# Altium integrated library TI Amplifiers and Linear Special Function Amplifier.IntLib: 708 symbols (part 17 of 47)
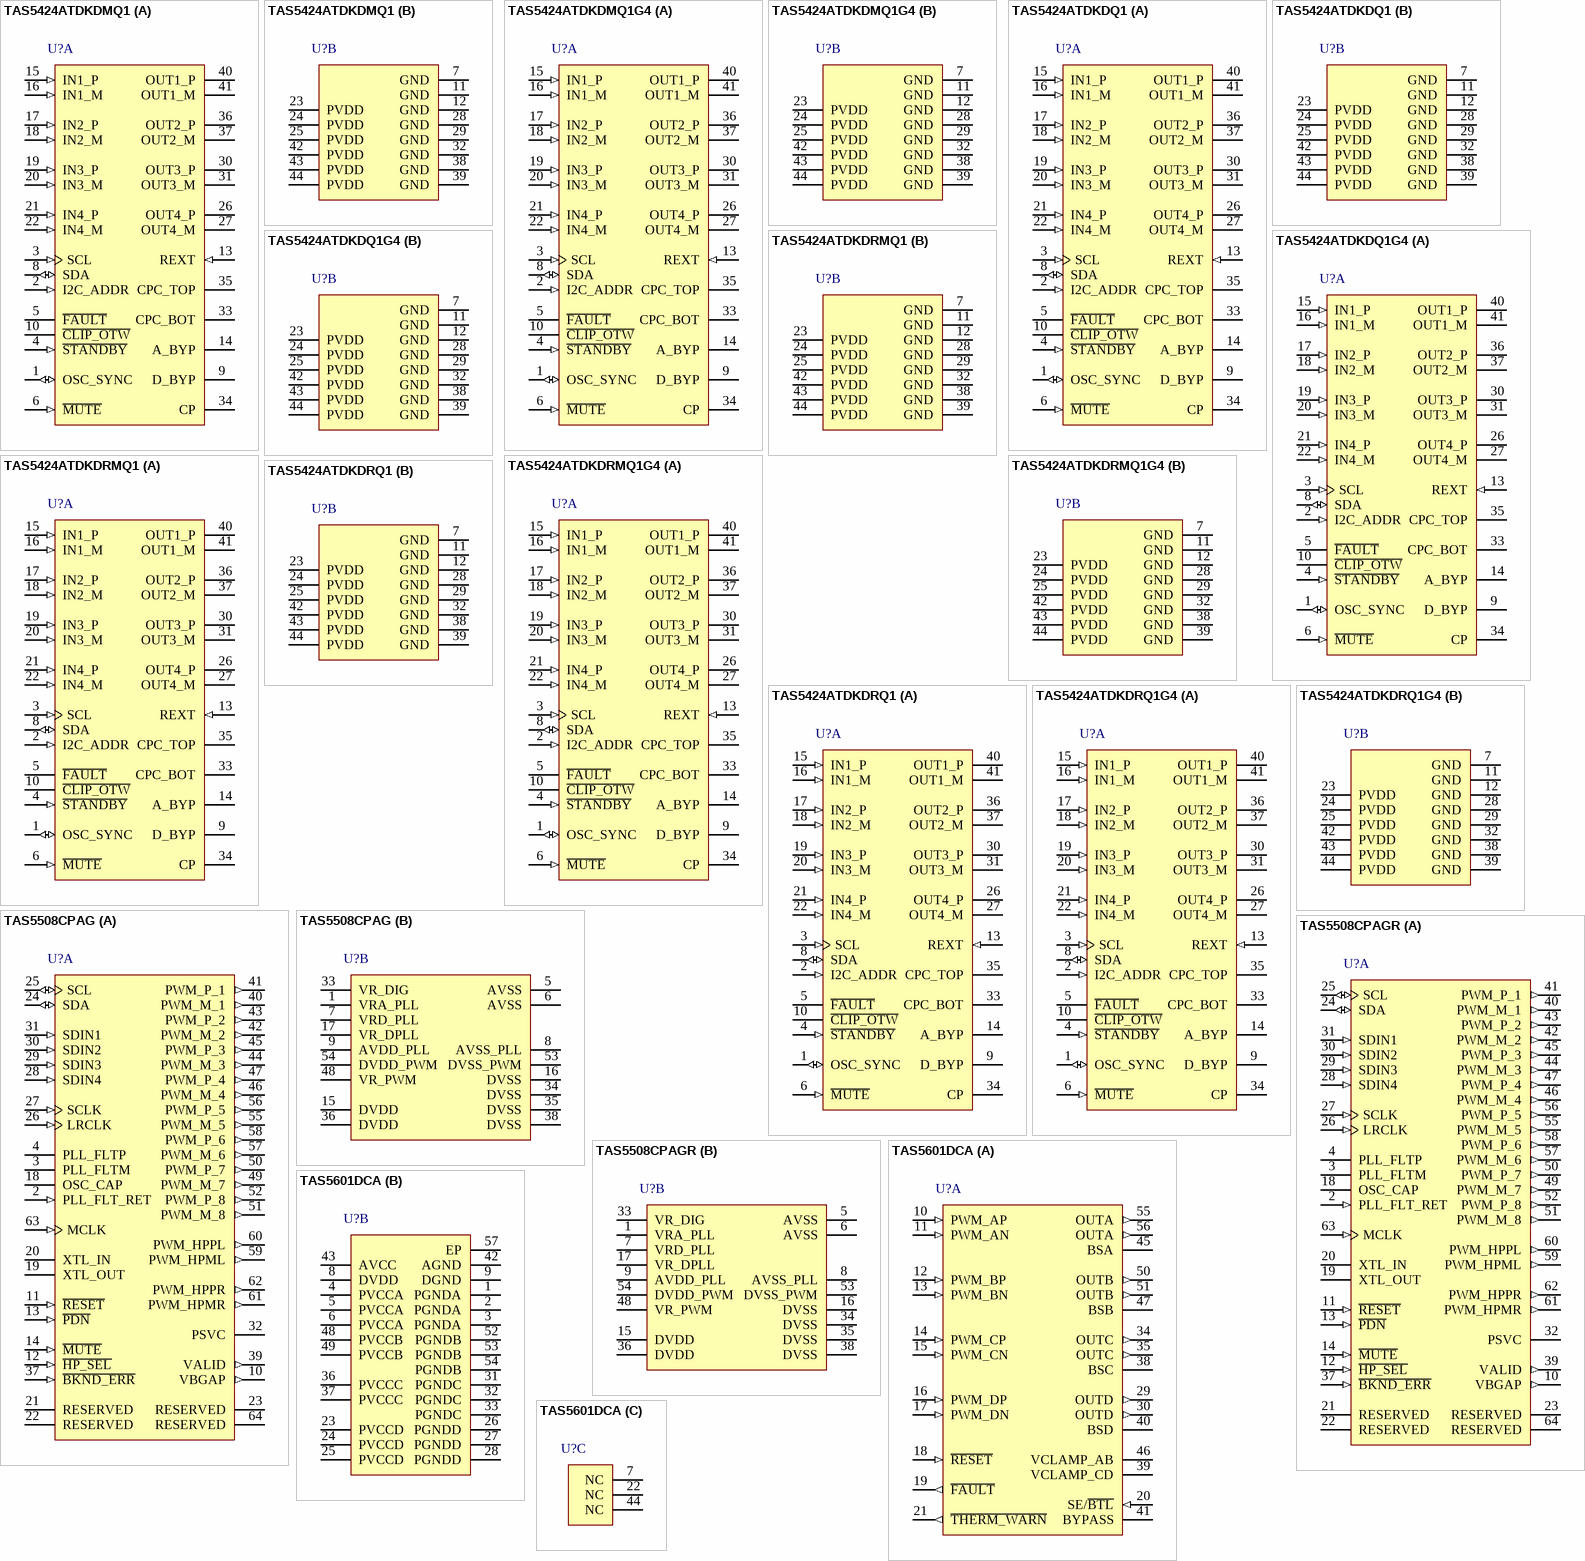
[diagram p55: symbols TAS5424ATDKDMQ1 to TAS5601DCA]

## TAS5601DCA
designator U?
20 W Stereo Digital Amplifier Power Stage with Feedback, -40 to 85 degC, 56-pin SOP (DCA56), Green (RoHS & no Sb/Br); Manufacturer: Texas Instruments; PartNumber: TAS5601DCA; Analog Supply Max [V]: 26; Analog Supply Min [V]: 10; Input Type: PWM; Max. Number of Speaker Outputs: 4; SubFamily: Mid/High-Power Amplifier; DatasheetVersion: SLAS585A; PackageVersion: 4073259-3/E, 07/2011; PackageReference: DCA56-5825X3235TP; PackageDescription: 56-Pin Plastic Small Outline, Body 14 x 6.1 mm, Pitch 0.5 mm; Supplier 1: Digi-Key; Supplier Part Number 1: TAS5601DCA-ND; Supplier 2: Farnell; Supplier Part Number 2: 1755215; Supplier 3: Mouser; Supplier Part Number 3: 595-TAS5601DCA; Eco-Plan: Green (RoHS & no Sb/Br); Mounting Technology: Surface Mount; Code_JEDEC: MO-153; ComponentLink1Description: Manufacturer URL; ComponentLink1URL: http://www.ti.com/; ComponentLink2Description: Datasheet; ComponentLink2URL: http://www.ti.com/general/docs/lit/getliterature.tsp?genericPartNumber=TAS5601&fileType=pdf; ComponentLink3Description: Package Specification; ComponentLink3URL: http://www.ti.com/lit/ds/symlink/tas5182.pdf
footprint TI-DCA56-5825X3235TP_N (SOP, 56-Leads, Body 14.1x6.2mm, Pitch 0.5mm, Thermal Pad 6.35x3.61mm, IPC Medium Density)
footprint TI-DCA56-5825X3235TP_L (SOP, 56-Leads, Body 14.1x6.2mm, Pitch 0.5mm, Thermal Pad 6.35x3.61mm, IPC High Density)
footprint TI-DCA56-5825X3235TP_M (SOP, 56-Leads, Body 14.1x6.2mm, Pitch 0.5mm, Thermal Pad 6.35x3.61mm, IPC Low Density)
part A pins: 10 PWM_AP (in) "Positive audio signal PWM input for channel A (Must be the complement of PWM_AN)", 11 PWM_AN (in) "Negative audio signal PWM input for channel A (Must be the complement of PWM_AP)", 12 PWM_BP (in) "Positive audio signal PWM input for channel B (Must be the complement of PWM_BN)", 13 PWM_BN (in) "Negative audio signal PWM input for channel B (Must be the complement of PWM_BP)", 14 PWM_CP (in) "Positive audio signal PWM input for channel C (Must be the complement of PWM_CN)", 15 PWM_CN (in) "Negative audio signal PWM input for channel C (Must be the complement of PWM_CP)", 16 PWM_DP (in) "Positive audio signal PWM input for channel D (Must be the complement of PWM_DN)", 17 PWM_DN (in) "Negative audio signal PWM input for channel D (Must be the complement of PWM_DP)", 18 ~{RESET} (in) "Enable/Disable pin R\E\S\E\T\ = High, normal operation R\E\S\E\T\ = Low, held in reset mode", 19 ~{FAULT} (out) "Short circuit fault F\A\U\L\T\ = High, normal operation F\A\U\L\T\ = Low, short circuit at output detected. F\A\U\L\T\ will latch if short circuit detected and will be reset if the R\E\S\E\T\ pin is pulled low or the VCC (See Datasheet)", 20 SE/~{BTL} (in) "Single-ended or Bridge-tied output select terminal. If any output is configured as a single-ended load, this pin should be connected to DVDD. For 2-channel, BTL operation, connect to GND.", 21 ~{THERM_WARN} (out) "Thermal warning output flag. T\H\E\R\M\_\W\A\R\N\ = HIGH, normal operation. T\H\E\R\M\_\W\A\R\N\ = LOW, die temperature has reached 125 deg. C. Automatically resets when temperature falls back to normal range. TTL compatible (See Datasheet)", 29 OUTD (out) "Channel D 1/2 H-bridge output", 30 OUTD (out) "Channel D 1/2 H-bridge output", 34 OUTC (out) "Channel C 1/2 H-bridge output", 35 OUTC (out) "Channel C 1/2 H-bridge output", 38 BSC "Bootstrap I/O for channel C high-side FET", 39 VCLAMP_CD "Internally generated voltage supply for channel C and D bootstrap. Not to be used as a supply or connected to any component other than the decoupling capacitor.", 40 BSD "Bootstrap I/O for channel D high-side FET", 41 BYPASS "VCC/8 reference for analog cells", 45 BSA "Bootstrap I/O for channel A high-side FET", 46 VCLAMP_AB "Internally generated voltage supply for channel A and B bootstrap. Not to be used as a supply or connected to any component other than the decoupling capacitor.", 47 BSB "Bootstrap I/O for channel B high-side FET", 50 OUTB (out) "Channel B 1/2 H-bridge output", 51 OUTB (out) "Channel B 1/2 H-bridge output", 55 OUTA (out) "Channel A 1/2 H-bridge output", 56 OUTA (out) "Channel A 1/2 H-bridge output"
part B pins: 1 PGNDA (power) "Power ground reference for channel A output", 2 PGNDA (power) "Power ground reference for channel A output", 3 PGNDA (power) "Power ground reference for channel A output", 4 PVCCA (power) "Positive power supply for channel A output", 5 PVCCA (power) "Positive power supply for channel A output", 6 PVCCA (power) "Positive power supply for channel A output", 8 DVDD (power) "Digital supply (3V-4.2V). Supply for PWM input signal conditioning, F\A\U\L\T\ and R\S\T\ I/O buffers", 9 DGND (power) "Ground reference input for PWM and digital inputs", 23 PVCCD (power) "Positive power supply for channel D output", 24 PVCCD (power) "Positive power supply for channel D output", 25 PVCCD (power) "Positive power supply for channel D output", 26 PGNDD (power) "Power ground reference for channel D output", 27 PGNDD (power) "Power ground reference for channel D output", 28 PGNDD (power) "Power ground reference for channel D output", 31 PGNDC (power) "Power ground reference for channel C output", 32 PGNDC (power) "Power ground reference for channel C output", 33 PGNDC (power) "Power ground reference for channel C output", 36 PVCCC (power) "Positive power supply for channel C output", 37 PVCCC (power) "Positive power supply for channel C output", 42 AGND (power) "Analog ground", 43 AVCC (power) "Analog power supply", 48 PVCCB (power) "Positive power supply for channel B output", 49 PVCCB (power) "Positive power supply for channel B output", 52 PGNDB (power) "Power ground reference for channel B output", 53 PGNDB (power) "Power ground reference for channel B output", 54 PGNDB (power) "Power ground reference for channel B output", 57 EP (power) "Connect to PGNDx"
part C pins: 7 NC, 22 NC, 44 NC

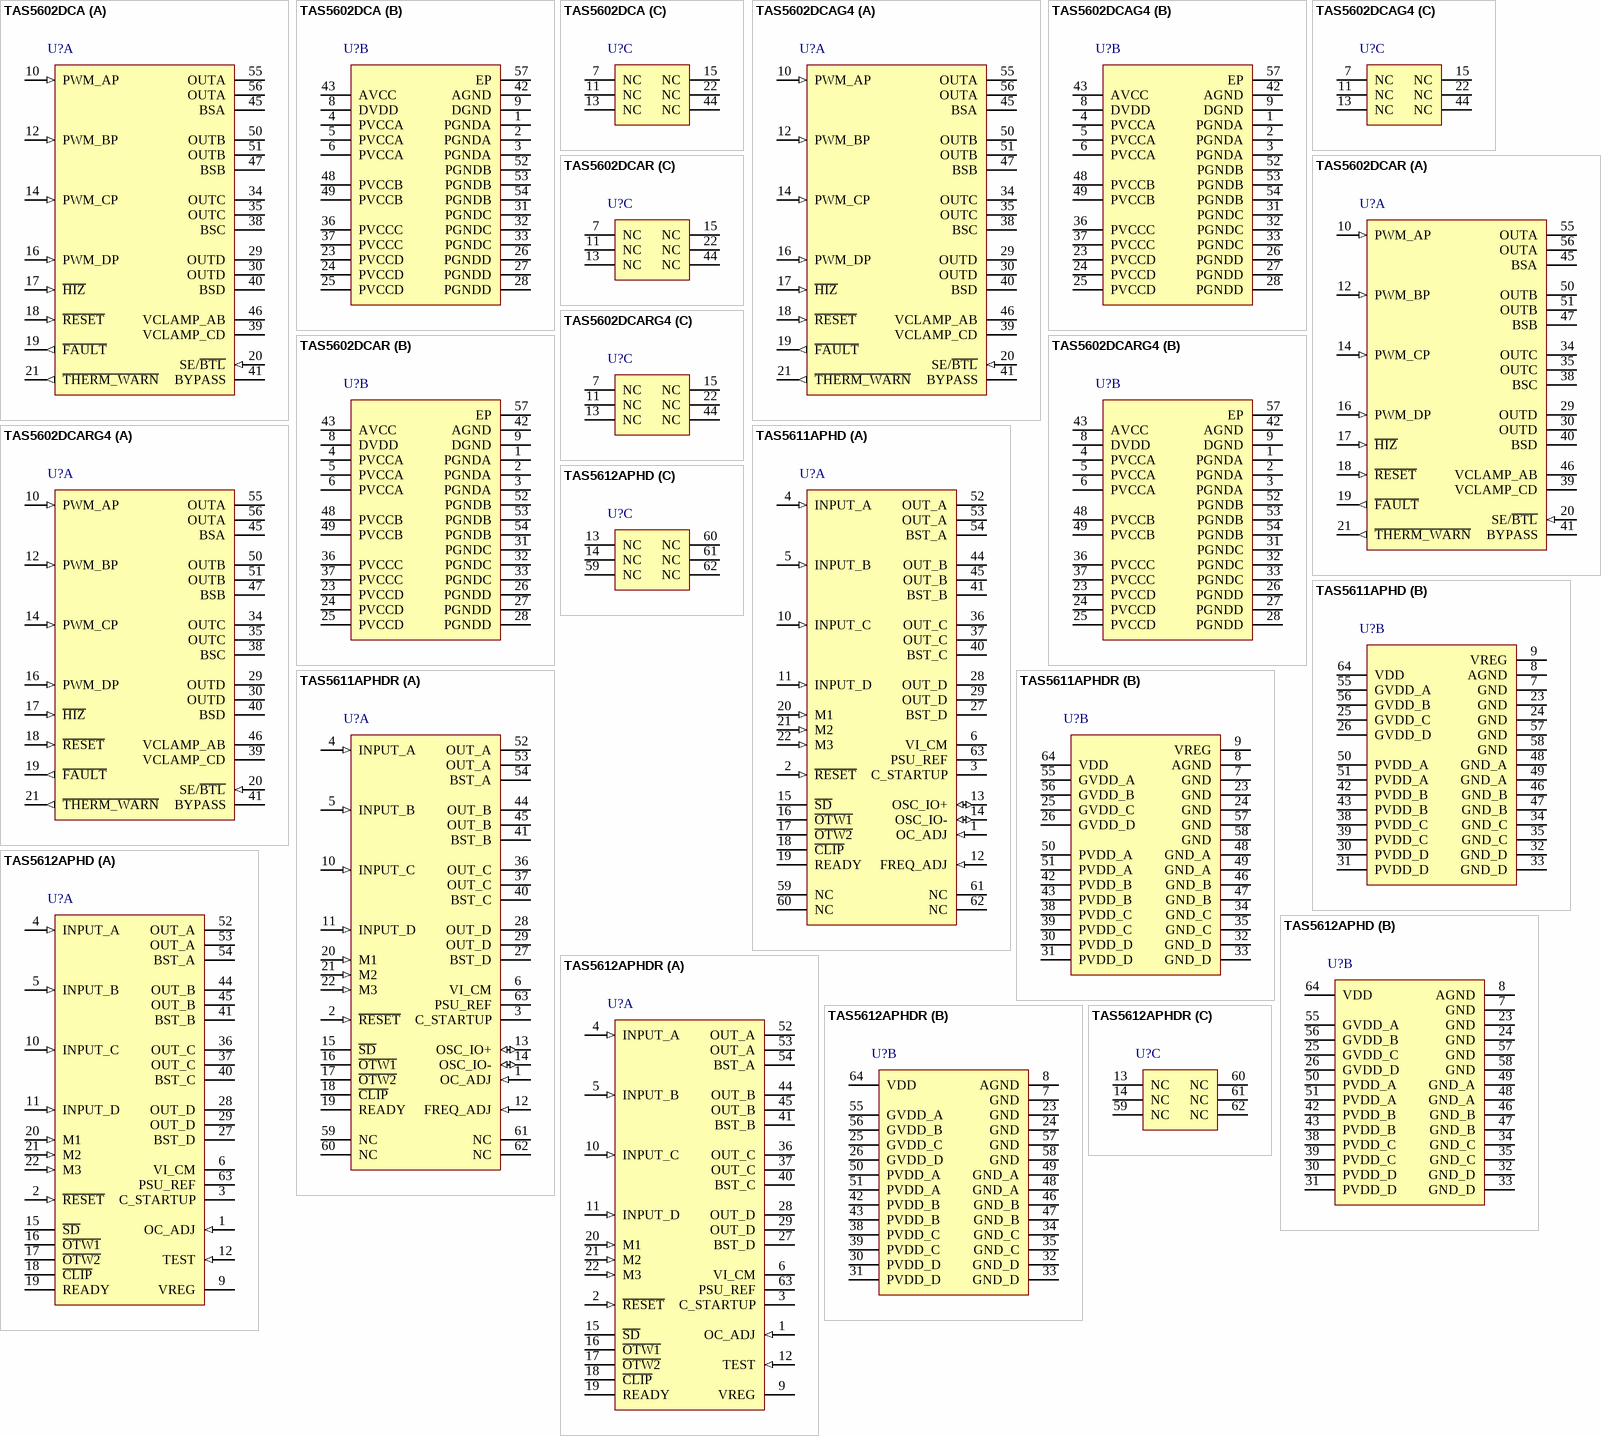
[diagram p16: symbols TAS5602DCA to TAS5612APHDR]

## TAS5602DCA
designator U?
20 W Stereo Digital Amplifier Power Stage with Feedback, -40 to 85 degC, 56-pin SOP (DCA56), Green (RoHS & no Sb/Br); Manufacturer: Texas Instruments; PartNumber: TAS5602DCA; Analog Supply Max [V]: 26; Analog Supply Min [V]: 10; Digital Supply Min [V]: 3; Input Type: PWM; Max. Number of Speaker Outputs: 4; SubFamily: Mid/High-Power Amplifier; DatasheetVersion: SLAS593B; PackageVersion: 4073259-3/E, 07/2011; PackageReference: DCA56-5825X3235TP; PackageDescription: 56-Pin Plastic Small Outline, Body 14 x 6.1 mm, Pitch 0.5 mm; Supplier 1: Digi-Key; Supplier Part Number 1: TAS5602DCA-ND; Supplier 2: Mouser; Supplier Part Number 2: 595-TAS5602DCA; Eco-Plan: Green (RoHS & no Sb/Br); Power Stage Supply Min(V): 10; Mounting Technology: Surface Mount; Code_JEDEC: MO-153; ComponentLink1Description: Manufacturer URL; ComponentLink1URL: http://www.ti.com/; ComponentLink2Description: Datasheet; ComponentLink2URL: http://www.ti.com/general/docs/lit/getliterature.tsp?genericPartNumber=TAS5602&fileType=pdf; ComponentLink3Description: Package Specification; ComponentLink3URL: http://www.ti.com/lit/ds/symlink/tas5182.pdf
footprint TI-DCA56-5825X3235TP_N (SOP, 56-Leads, Body 14.1x6.2mm, Pitch 0.5mm, Thermal Pad 6.35x3.61mm, IPC Medium Density)
footprint TI-DCA56-5825X3235TP_L (SOP, 56-Leads, Body 14.1x6.2mm, Pitch 0.5mm, Thermal Pad 6.35x3.61mm, IPC High Density)
footprint TI-DCA56-5825X3235TP_M (SOP, 56-Leads, Body 14.1x6.2mm, Pitch 0.5mm, Thermal Pad 6.35x3.61mm, IPC Low Density)
part A pins: 10 PWM_AP (in) "Positive audio signal PWM input for channel A", 12 PWM_BP (in) "Positive audio signal PWM input for channel B", 14 PWM_CP (in) "Positive audio signal PWM input for channel C", 16 PWM_DP (in) "Positive audio signal PWM input for channel D", 17 ~{HIZ} (in) "Forces the output to high impedance state. Use this terminal to quickly (<1 ms) disable the output switching in cases like power fail. If H\I\Z\ is tied to R\E\S\E\T\, the volume ramps up slowly at start-up, but the output (See Datasheet)", 18 ~{RESET} (in) "Enable/Disable pin R\E\S\E\T\ = High, normal operation R\E\S\E\T\ = Low, held in reset mode", 19 ~{FAULT} (out) "Short circuit fault F\A\U\L\T\ = High, normal operation F\A\U\L\T\ = Low, short circuit at output detected. F\A\U\L\T\ will latch if short circuit detected and will be reset if the R\E\S\E\T\ pin is pulled low or the VCC (See Datasheet)", 20 SE/~{BTL} (in) "Single-ended or Bridge-tied output select terminal. If any output is configured as a single-ended load, this pin should be connected to DVDD. For 2-channel, BTL operation, connect to GND.", 21 ~{THERM_WARN} (out) "Thermal warning output flag. T\H\E\R\M\_\W\A\R\N\ = HIGH, normal operation. T\H\E\R\M\_\W\A\R\N\ = LOW, die temperature has reached 125 deg. C. Automatically resets when temperature falls back to normal range. TTL compatible (See Datasheet)", 29 OUTD (hiz) "Channel D 1/2 H-bridge output", 30 OUTD (hiz) "Channel D 1/2 H-bridge output", 34 OUTC (hiz) "Channel C 1/2 H-bridge output", 35 OUTC (hiz) "Channel C 1/2 H-bridge output", 38 BSC "Bootstrap I/O for channel C high-side FET", 39 VCLAMP_CD "Internally generated voltage supply for channel C and D bootstrap. Not to be used as a supply or connected to any component other than the decoupling capacitor.", 40 BSD "Bootstrap I/O for channel D high-side FET", 41 BYPASS "VCC/8 reference for analog cells", 45 BSA "Bootstrap I/O for channel A high-side FET", 46 VCLAMP_AB "Internally generated voltage supply for channel A and B bootstrap. Not to be used as a supply or connected to any component other than the decoupling capacitor.", 47 BSB "Bootstrap I/O for channel B high-side FET", 50 OUTB (hiz) "Channel B 1/2 H-bridge output", 51 OUTB (hiz) "Channel B 1/2 H-bridge output", 55 OUTA (hiz) "Channel A 1/2 H-bridge output", 56 OUTA (hiz) "Channel A 1/2 H-bridge output"
part B pins: 1 PGNDA (power) "Power ground reference for channel A output", 2 PGNDA (power) "Power ground reference for channel A output", 3 PGNDA (power) "Power ground reference for channel A output", 4 PVCCA (power) "Positive power supply for channel A output", 5 PVCCA (power) "Positive power supply for channel A output", 6 PVCCA (power) "Positive power supply for channel A output", 8 DVDD (power) "Digital supply (3V-4.2V). Supply for PWM input signal conditioning, F\A\U\L\T\ and R\S\T\ I/O buffers", 9 DGND (power) "Ground reference input for PWM and digital inputs", 23 PVCCD (power) "Positive power supply for channel D output", 24 PVCCD (power) "Positive power supply for channel D output", 25 PVCCD (power) "Positive power supply for channel D output", 26 PGNDD (power) "Power ground reference for channel D output", 27 PGNDD (power) "Power ground reference for channel D output", 28 PGNDD (power) "Power ground reference for channel D output", 31 PGNDC (power) "Power ground reference for channel C output", 32 PGNDC (power) "Power ground reference for channel C output", 33 PGNDC (power) "Power ground reference for channel C output", 36 PVCCC (power) "Positive power supply for channel C output", 37 PVCCC (power) "Positive power supply for channel C output", 42 AGND (power) "Analog ground", 43 AVCC (power) "Analog power supply", 48 PVCCB (power) "Positive power supply for channel B output", 49 PVCCB (power) "Positive power supply for channel B output", 52 PGNDB (power) "Power ground reference for channel B output", 53 PGNDB (power) "Power ground reference for channel B output", 54 PGNDB (power) "Power ground reference for channel B output", 57 EP (power) "Connect to PGNDx"
part C pins: 7 NC "No internal connection.", 11 NC "No internal connection.", 13 NC "No internal connection.", 15 NC "No internal connection.", 22 NC "No internal connection.", 44 NC "No internal connection."

## TAS5602DCAG4
designator U?
20 W Stereo Digital Amplifier Power Stage with Feedback, -40 to 85 degC, 56-pin SOP (DCA56), Green (RoHS & no Sb/Br); Manufacturer: Texas Instruments; PartNumber: TAS5602DCAG4; Analog Supply Max [V]: 26; Analog Supply Min [V]: 10; Digital Supply Min [V]: 3; Input Type: PWM; Max. Number of Speaker Outputs: 4; SubFamily: Mid/High-Power Amplifier; DatasheetVersion: SLAS593B; PackageVersion: 4073259-3/E, 07/2011; PackageReference: DCA56-5825X3235TP; PackageDescription: 56-Pin Plastic Small Outline, Body 14 x 6.1 mm, Pitch 0.5 mm; Supplier 1: Digi-Key; Supplier Part Number 1: TAS5602DCAG4-ND; Supplier 2: Mouser; Supplier Part Number 2: 595-TAS5602DCAG4; Eco-Plan: Green (RoHS & no Sb/Br); Power Stage Supply Min(V): 10; Mounting Technology: Surface Mount; Code_JEDEC: MO-153; ComponentLink1Description: Manufacturer URL; ComponentLink1URL: http://www.ti.com/; ComponentLink2Description: Datasheet; ComponentLink2URL: http://www.ti.com/general/docs/lit/getliterature.tsp?genericPartNumber=TAS5602&fileType=pdf; ComponentLink3Description: Package Specification; ComponentLink3URL: http://www.ti.com/lit/ds/symlink/tas5182.pdf
footprint TI-DCA56-5825X3235TP_N (SOP, 56-Leads, Body 14.1x6.2mm, Pitch 0.5mm, Thermal Pad 6.35x3.61mm, IPC Medium Density)
footprint TI-DCA56-5825X3235TP_L (SOP, 56-Leads, Body 14.1x6.2mm, Pitch 0.5mm, Thermal Pad 6.35x3.61mm, IPC High Density)
footprint TI-DCA56-5825X3235TP_M (SOP, 56-Leads, Body 14.1x6.2mm, Pitch 0.5mm, Thermal Pad 6.35x3.61mm, IPC Low Density)
part A pins: 10 PWM_AP (in) "Positive audio signal PWM input for channel A", 12 PWM_BP (in) "Positive audio signal PWM input for channel B", 14 PWM_CP (in) "Positive audio signal PWM input for channel C", 16 PWM_DP (in) "Positive audio signal PWM input for channel D", 17 ~{HIZ} (in) "Forces the output to high impedance state. Use this terminal to quickly (<1 ms) disable the output switching in cases like power fail. If H\I\Z\ is tied to R\E\S\E\T\, the volume ramps up slowly at start-up, but the output (See Datasheet)", 18 ~{RESET} (in) "Enable/Disable pin R\E\S\E\T\ = High, normal operation R\E\S\E\T\ = Low, held in reset mode", 19 ~{FAULT} (out) "Short circuit fault F\A\U\L\T\ = High, normal operation F\A\U\L\T\ = Low, short circuit at output detected. F\A\U\L\T\ will latch if short circuit detected and will be reset if the R\E\S\E\T\ pin is pulled low or the VCC (See Datasheet)", 20 SE/~{BTL} (in) "Single-ended or Bridge-tied output select terminal. If any output is configured as a single-ended load, this pin should be connected to DVDD. For 2-channel, BTL operation, connect to GND.", 21 ~{THERM_WARN} (out) "Thermal warning output flag. T\H\E\R\M\_\W\A\R\N\ = HIGH, normal operation. T\H\E\R\M\_\W\A\R\N\ = LOW, die temperature has reached 125 deg. C. Automatically resets when temperature falls back to normal range. TTL compatible (See Datasheet)", 29 OUTD (hiz) "Channel D 1/2 H-bridge output", 30 OUTD (hiz) "Channel D 1/2 H-bridge output", 34 OUTC (hiz) "Channel C 1/2 H-bridge output", 35 OUTC (hiz) "Channel C 1/2 H-bridge output", 38 BSC "Bootstrap I/O for channel C high-side FET", 39 VCLAMP_CD "Internally generated voltage supply for channel C and D bootstrap. Not to be used as a supply or connected to any component other than the decoupling capacitor.", 40 BSD "Bootstrap I/O for channel D high-side FET", 41 BYPASS "VCC/8 reference for analog cells", 45 BSA "Bootstrap I/O for channel A high-side FET", 46 VCLAMP_AB "Internally generated voltage supply for channel A and B bootstrap. Not to be used as a supply or connected to any component other than the decoupling capacitor.", 47 BSB "Bootstrap I/O for channel B high-side FET", 50 OUTB (hiz) "Channel B 1/2 H-bridge output", 51 OUTB (hiz) "Channel B 1/2 H-bridge output", 55 OUTA (hiz) "Channel A 1/2 H-bridge output", 56 OUTA (hiz) "Channel A 1/2 H-bridge output"
part B pins: 1 PGNDA (power) "Power ground reference for channel A output", 2 PGNDA (power) "Power ground reference for channel A output", 3 PGNDA (power) "Power ground reference for channel A output", 4 PVCCA (power) "Positive power supply for channel A output", 5 PVCCA (power) "Positive power supply for channel A output", 6 PVCCA (power) "Positive power supply for channel A output", 8 DVDD (power) "Digital supply (3V-4.2V). Supply for PWM input signal conditioning, F\A\U\L\T\ and R\S\T\ I/O buffers", 9 DGND (power) "Ground reference input for PWM and digital inputs", 23 PVCCD (power) "Positive power supply for channel D output", 24 PVCCD (power) "Positive power supply for channel D output", 25 PVCCD (power) "Positive power supply for channel D output", 26 PGNDD (power) "Power ground reference for channel D output", 27 PGNDD (power) "Power ground reference for channel D output", 28 PGNDD (power) "Power ground reference for channel D output", 31 PGNDC (power) "Power ground reference for channel C output", 32 PGNDC (power) "Power ground reference for channel C output", 33 PGNDC (power) "Power ground reference for channel C output", 36 PVCCC (power) "Positive power supply for channel C output", 37 PVCCC (power) "Positive power supply for channel C output", 42 AGND (power) "Analog ground", 43 AVCC (power) "Analog power supply", 48 PVCCB (power) "Positive power supply for channel B output", 49 PVCCB (power) "Positive power supply for channel B output", 52 PGNDB (power) "Power ground reference for channel B output", 53 PGNDB (power) "Power ground reference for channel B output", 54 PGNDB (power) "Power ground reference for channel B output", 57 EP (power) "Connect to PGNDx"
part C pins: 7 NC "No internal connection.", 11 NC "No internal connection.", 13 NC "No internal connection.", 15 NC "No internal connection.", 22 NC "No internal connection.", 44 NC "No internal connection."

## TAS5602DCAR
designator U?
20 W Stereo Digital Amplifier Power Stage with Feedback, -40 to 85 degC, 56-pin SOP (DCA56), Green (RoHS & no Sb/Br); Manufacturer: Texas Instruments; PartNumber: TAS5602DCAR; Analog Supply Max [V]: 26; Analog Supply Min [V]: 10; Digital Supply Min [V]: 3; Input Type: PWM; Max. Number of Speaker Outputs: 4; SubFamily: Mid/High-Power Amplifier; DatasheetVersion: SLAS593B; PackageVersion: 4073259-3/E, 07/2011; PackageReference: DCA56-5825X3235TP; PackageDescription: 56-Pin Plastic Small Outline, Body 14 x 6.1 mm, Pitch 0.5 mm; Supplier 1: Digi-Key; Supplier Part Number 1: 296-23533-2-ND; Supplier 2: Digi-Key; Supplier Part Number 2: 296-23533-1-ND; Supplier 3: Digi-Key; Supplier Part Number 3: 296-23533-6-ND; Supplier 4: Mouser; Supplier Part Number 4: 595-TAS5602DCAR; Eco-Plan: Green (RoHS & no Sb/Br); Power Stage Supply Min(V): 10; Mounting Technology: Surface Mount; Code_JEDEC: MO-153; ComponentLink1Description: Manufacturer URL; ComponentLink1URL: http://www.ti.com/; ComponentLink2Description: Datasheet; ComponentLink2URL: http://www.ti.com/general/docs/lit/getliterature.tsp?genericPartNumber=TAS5602&fileType=pdf; ComponentLink3Description: Package Specification; ComponentLink3URL: http://www.ti.com/lit/ds/symlink/tas5182.pdf
footprint TI-DCA56-5825X3235TP_N (SOP, 56-Leads, Body 14.1x6.2mm, Pitch 0.5mm, Thermal Pad 6.35x3.61mm, IPC Medium Density)
footprint TI-DCA56-5825X3235TP_L (SOP, 56-Leads, Body 14.1x6.2mm, Pitch 0.5mm, Thermal Pad 6.35x3.61mm, IPC High Density)
footprint TI-DCA56-5825X3235TP_M (SOP, 56-Leads, Body 14.1x6.2mm, Pitch 0.5mm, Thermal Pad 6.35x3.61mm, IPC Low Density)
part A pins: 10 PWM_AP (in) "Positive audio signal PWM input for channel A", 12 PWM_BP (in) "Positive audio signal PWM input for channel B", 14 PWM_CP (in) "Positive audio signal PWM input for channel C", 16 PWM_DP (in) "Positive audio signal PWM input for channel D", 17 ~{HIZ} (in) "Forces the output to high impedance state. Use this terminal to quickly (<1 ms) disable the output switching in cases like power fail. If H\I\Z\ is tied to R\E\S\E\T\, the volume ramps up slowly at start-up, but the output (See Datasheet)", 18 ~{RESET} (in) "Enable/Disable pin R\E\S\E\T\ = High, normal operation R\E\S\E\T\ = Low, held in reset mode", 19 ~{FAULT} (out) "Short circuit fault F\A\U\L\T\ = High, normal operation F\A\U\L\T\ = Low, short circuit at output detected. F\A\U\L\T\ will latch if short circuit detected and will be reset if the R\E\S\E\T\ pin is pulled low or the VCC (See Datasheet)", 20 SE/~{BTL} (in) "Single-ended or Bridge-tied output select terminal. If any output is configured as a single-ended load, this pin should be connected to DVDD. For 2-channel, BTL operation, connect to GND.", 21 ~{THERM_WARN} (out) "Thermal warning output flag. T\H\E\R\M\_\W\A\R\N\ = HIGH, normal operation. T\H\E\R\M\_\W\A\R\N\ = LOW, die temperature has reached 125 deg. C. Automatically resets when temperature falls back to normal range. TTL compatible (See Datasheet)", 29 OUTD (hiz) "Channel D 1/2 H-bridge output", 30 OUTD (hiz) "Channel D 1/2 H-bridge output", 34 OUTC (hiz) "Channel C 1/2 H-bridge output", 35 OUTC (hiz) "Channel C 1/2 H-bridge output", 38 BSC "Bootstrap I/O for channel C high-side FET", 39 VCLAMP_CD "Internally generated voltage supply for channel C and D bootstrap. Not to be used as a supply or connected to any component other than the decoupling capacitor.", 40 BSD "Bootstrap I/O for channel D high-side FET", 41 BYPASS "VCC/8 reference for analog cells", 45 BSA "Bootstrap I/O for channel A high-side FET", 46 VCLAMP_AB "Internally generated voltage supply for channel A and B bootstrap. Not to be used as a supply or connected to any component other than the decoupling capacitor.", 47 BSB "Bootstrap I/O for channel B high-side FET", 50 OUTB (hiz) "Channel B 1/2 H-bridge output", 51 OUTB (hiz) "Channel B 1/2 H-bridge output", 55 OUTA (hiz) "Channel A 1/2 H-bridge output", 56 OUTA (hiz) "Channel A 1/2 H-bridge output"
part B pins: 1 PGNDA (power) "Power ground reference for channel A output", 2 PGNDA (power) "Power ground reference for channel A output", 3 PGNDA (power) "Power ground reference for channel A output", 4 PVCCA (power) "Positive power supply for channel A output", 5 PVCCA (power) "Positive power supply for channel A output", 6 PVCCA (power) "Positive power supply for channel A output", 8 DVDD (power) "Digital supply (3V-4.2V). Supply for PWM input signal conditioning, F\A\U\L\T\ and R\S\T\ I/O buffers", 9 DGND (power) "Ground reference input for PWM and digital inputs", 23 PVCCD (power) "Positive power supply for channel D output", 24 PVCCD (power) "Positive power supply for channel D output", 25 PVCCD (power) "Positive power supply for channel D output", 26 PGNDD (power) "Power ground reference for channel D output", 27 PGNDD (power) "Power ground reference for channel D output", 28 PGNDD (power) "Power ground reference for channel D output", 31 PGNDC (power) "Power ground reference for channel C output", 32 PGNDC (power) "Power ground reference for channel C output", 33 PGNDC (power) "Power ground reference for channel C output", 36 PVCCC (power) "Positive power supply for channel C output", 37 PVCCC (power) "Positive power supply for channel C output", 42 AGND (power) "Analog ground", 43 AVCC (power) "Analog power supply", 48 PVCCB (power) "Positive power supply for channel B output", 49 PVCCB (power) "Positive power supply for channel B output", 52 PGNDB (power) "Power ground reference for channel B output", 53 PGNDB (power) "Power ground reference for channel B output", 54 PGNDB (power) "Power ground reference for channel B output", 57 EP (power) "Connect to PGNDx"
part C pins: 7 NC "No internal connection.", 11 NC "No internal connection.", 13 NC "No internal connection.", 15 NC "No internal connection.", 22 NC "No internal connection.", 44 NC "No internal connection."

## TAS5602DCARG4
designator U?
20 W Stereo Digital Amplifier Power Stage with Feedback, -40 to 85 degC, 56-pin SOP (DCA56), Green (RoHS & no Sb/Br); Manufacturer: Texas Instruments; PartNumber: TAS5602DCARG4; Analog Supply Max [V]: 26; Analog Supply Min [V]: 10; Digital Supply Min [V]: 3; Input Type: PWM; Max. Number of Speaker Outputs: 4; SubFamily: Mid/High-Power Amplifier; DatasheetVersion: SLAS593B; PackageVersion: 4073259-3/E, 07/2011; PackageReference: DCA56-5825X3235TP; PackageDescription: 56-Pin Plastic Small Outline, Body 14 x 6.1 mm, Pitch 0.5 mm; Supplier 1: Digi-Key; Supplier Part Number 1: TAS5602DCARG4-ND; Supplier 2: Mouser; Supplier Part Number 2: 595-TAS5602DCARG4; Eco-Plan: Green (RoHS & no Sb/Br); Power Stage Supply Min(V): 10; Mounting Technology: Surface Mount; Code_JEDEC: MO-153; ComponentLink1Description: Manufacturer URL; ComponentLink1URL: http://www.ti.com/; ComponentLink2Description: Datasheet; ComponentLink2URL: http://www.ti.com/general/docs/lit/getliterature.tsp?genericPartNumber=TAS5602&fileType=pdf; ComponentLink3Description: Package Specification; ComponentLink3URL: http://www.ti.com/lit/ds/symlink/tas5182.pdf
footprint TI-DCA56-5825X3235TP_N (SOP, 56-Leads, Body 14.1x6.2mm, Pitch 0.5mm, Thermal Pad 6.35x3.61mm, IPC Medium Density)
footprint TI-DCA56-5825X3235TP_L (SOP, 56-Leads, Body 14.1x6.2mm, Pitch 0.5mm, Thermal Pad 6.35x3.61mm, IPC High Density)
footprint TI-DCA56-5825X3235TP_M (SOP, 56-Leads, Body 14.1x6.2mm, Pitch 0.5mm, Thermal Pad 6.35x3.61mm, IPC Low Density)
part A pins: 10 PWM_AP (in) "Positive audio signal PWM input for channel A", 12 PWM_BP (in) "Positive audio signal PWM input for channel B", 14 PWM_CP (in) "Positive audio signal PWM input for channel C", 16 PWM_DP (in) "Positive audio signal PWM input for channel D", 17 ~{HIZ} (in) "Forces the output to high impedance state. Use this terminal to quickly (<1 ms) disable the output switching in cases like power fail. If H\I\Z\ is tied to R\E\S\E\T\, the volume ramps up slowly at start-up, but the output (See Datasheet)", 18 ~{RESET} (in) "Enable/Disable pin R\E\S\E\T\ = High, normal operation R\E\S\E\T\ = Low, held in reset mode", 19 ~{FAULT} (out) "Short circuit fault F\A\U\L\T\ = High, normal operation F\A\U\L\T\ = Low, short circuit at output detected. F\A\U\L\T\ will latch if short circuit detected and will be reset if the R\E\S\E\T\ pin is pulled low or the VCC (See Datasheet)", 20 SE/~{BTL} (in) "Single-ended or Bridge-tied output select terminal. If any output is configured as a single-ended load, this pin should be connected to DVDD. For 2-channel, BTL operation, connect to GND.", 21 ~{THERM_WARN} (out) "Thermal warning output flag. T\H\E\R\M\_\W\A\R\N\ = HIGH, normal operation. T\H\E\R\M\_\W\A\R\N\ = LOW, die temperature has reached 125 deg. C. Automatically resets when temperature falls back to normal range. TTL compatible (See Datasheet)", 29 OUTD (hiz) "Channel D 1/2 H-bridge output", 30 OUTD (hiz) "Channel D 1/2 H-bridge output", 34 OUTC (hiz) "Channel C 1/2 H-bridge output", 35 OUTC (hiz) "Channel C 1/2 H-bridge output", 38 BSC "Bootstrap I/O for channel C high-side FET", 39 VCLAMP_CD "Internally generated voltage supply for channel C and D bootstrap. Not to be used as a supply or connected to any component other than the decoupling capacitor.", 40 BSD "Bootstrap I/O for channel D high-side FET", 41 BYPASS "VCC/8 reference for analog cells", 45 BSA "Bootstrap I/O for channel A high-side FET", 46 VCLAMP_AB "Internally generated voltage supply for channel A and B bootstrap. Not to be used as a supply or connected to any component other than the decoupling capacitor.", 47 BSB "Bootstrap I/O for channel B high-side FET", 50 OUTB (hiz) "Channel B 1/2 H-bridge output", 51 OUTB (hiz) "Channel B 1/2 H-bridge output", 55 OUTA (hiz) "Channel A 1/2 H-bridge output", 56 OUTA (hiz) "Channel A 1/2 H-bridge output"
part B pins: 1 PGNDA (power) "Power ground reference for channel A output", 2 PGNDA (power) "Power ground reference for channel A output", 3 PGNDA (power) "Power ground reference for channel A output", 4 PVCCA (power) "Positive power supply for channel A output", 5 PVCCA (power) "Positive power supply for channel A output", 6 PVCCA (power) "Positive power supply for channel A output", 8 DVDD (power) "Digital supply (3V-4.2V). Supply for PWM input signal conditioning, F\A\U\L\T\ and R\S\T\ I/O buffers", 9 DGND (power) "Ground reference input for PWM and digital inputs", 23 PVCCD (power) "Positive power supply for channel D output", 24 PVCCD (power) "Positive power supply for channel D output", 25 PVCCD (power) "Positive power supply for channel D output", 26 PGNDD (power) "Power ground reference for channel D output", 27 PGNDD (power) "Power ground reference for channel D output", 28 PGNDD (power) "Power ground reference for channel D output", 31 PGNDC (power) "Power ground reference for channel C output", 32 PGNDC (power) "Power ground reference for channel C output", 33 PGNDC (power) "Power ground reference for channel C output", 36 PVCCC (power) "Positive power supply for channel C output", 37 PVCCC (power) "Positive power supply for channel C output", 42 AGND (power) "Analog ground", 43 AVCC (power) "Analog power supply", 48 PVCCB (power) "Positive power supply for channel B output", 49 PVCCB (power) "Positive power supply for channel B output", 52 PGNDB (power) "Power ground reference for channel B output", 53 PGNDB (power) "Power ground reference for channel B output", 54 PGNDB (power) "Power ground reference for channel B output", 57 EP (power) "Connect to PGNDx"
part C pins: 7 NC "No internal connection.", 11 NC "No internal connection.", 13 NC "No internal connection.", 15 NC "No internal connection.", 22 NC "No internal connection.", 44 NC "No internal connection."

## TAS5611APHD
designator U?
125 W Stereo / 250 W Mono PurePath(TM) HD Analog-Input Power Stage, 0 to 70 degC, 64-pin QFP (PHD64), Green (RoHS & no Sb/Br); Manufacturer: Texas Instruments; PartNumber: TAS5611APHD; Analog Supply Max [V]: 13.2; Analog Supply Min [V]: 10.8; Input Type: Analog; Max. Number of Speaker Outputs: 4; Power Stage Supply Min(V): 16; SubFamily: Mid/High-Power Amplifier; DatasheetVersion: SLAS709B; PackageVersion: 4087742/E, 10/2008; PackageReference: PHD64; PackageDescription: 64-Pin Plastic Flat Pack, Body 14 x 14 mm, Pitch 0.8 mm; Supplier 1: Digi-Key; Supplier Part Number 1: 296-32726-ND; Supplier 2: Mouser; Supplier Part Number 2: 595-TAS5611APHD; Eco-Plan: Green (RoHS & no Sb/Br); Mounting Technology: Surface Mount; Code_JEDEC: MS-026; ComponentLink1Description: Manufacturer URL; ComponentLink1URL: http://www.ti.com/; ComponentLink2Description: Datasheet; ComponentLink2URL: http://www.ti.com/general/docs/lit/getliterature.tsp?genericPartNumber=TAS5611A&fileType=pdf; ComponentLink3Description: Package Specification; ComponentLink3URL: http://www.ti.com/lit/ml/mpqf047d/mpqf047d.pdf
footprint TI-PHD64_N (QFP, 64-Leads, Body 14x14mm, Pitch 0.8mm, IPC Medium Density)
footprint TI-PHD64_L (QFP, 64-Leads, Body 14x14mm, Pitch 0.8mm, IPC High Density)
footprint TI-PHD64_M (QFP, 64-Leads, Body 14x14mm, Pitch 0.8mm, IPC Low Density)
part A pins: 1 OC_ADJ (in) "Analog overcurrent programming pin requires 30k ohm resistor to GND.", 2 ~{RESET} (in) "Device reset input; active-low", 3 C_STARTUP "Start up ramp requires a charging capacitor of 4.7 nF to GND in BTL mode", 4 INPUT_A (in) "Input signal for half bridge A", 5 INPUT_B (in) "Input signal for half bridge B", 6 VI_CM "Analog comparator reference node requires close decoupling of 1 nF to GND.", 10 INPUT_C (in) "Input signal for half bridge C", 11 INPUT_D (in) "Input signal for half bridge D", 12 FREQ_ADJ (in) "PWM frame rate programming pin requires resistor to GND", 13 OSC_IO+ (io) "Oscillator master/slave output/input", 14 OSC_IO- (io) "Oscillator master/slave output/input", 15 ~{SD} (oc) "Shutdown signal, open-drain, active-low", 16 ~{OTW1} (oc) "Overtemperature warning signal, open-drain, active-low", 17 ~{OTW2} (oc) "Overtemperature warning signal, open-drain, active-low", 18 ~{CLIP} (oc) "Clipping warning; open drain; active-low", 19 READY (oc) "Normal operation; open-drain; active-high", 20 M1 (in) "Mode selection", 21 M2 (in) "Mode selection", 22 M3 (in) "Mode selection", 27 BST_D "HS bootstrap supply (BST), external 0.033 uF capacitor to OUT_D required.", 28 OUT_D (hiz) "Output, half-bridge D", 29 OUT_D (hiz) "Output, half-bridge D", 36 OUT_C (hiz) "Output, half-bridge C", 37 OUT_C (hiz) "Output, half-bridge C", 40 BST_C "HS bootstrap supply (BST), external 0.033 uF capacitor to OUT_C required.", 41 BST_B "HS bootstrap supply (BST), external 0.033 uF capacitor to OUT_B required.", 44 OUT_B (hiz) "Output, half-bridge B", 45 OUT_B (hiz) "Output, half-bridge B", 52 OUT_A (hiz) "Output, half-bridge A", 53 OUT_A (hiz) "Output, half-bridge A", 54 BST_A "HS bootstrap supply (BST), external 0.033 uF capacitor to OUT_A required.", 59 NC "No connect; pins may be grounded.", 60 NC "No connect; pins may be grounded.", 61 NC "No connect; pins may be grounded.", 62 NC "No connect; pins may be grounded.", 63 PSU_REF "PSU reference requires close decoupling of 330 pF to AGND."
part B pins: 7 GND (power) "Ground", 8 AGND (power) "Analog ground", 9 VREG "Digital regulator supply filter pin requires 0.1-uF capacitor to GND", 23 GND (power) "Ground", 24 GND (power) "Ground", 25 GVDD_C (power) "Gate drive voltage supply requires 0.1 uF capacitor to GND_C", 26 GVDD_D (power) "Gate drive voltage supply requires 0.1 uF capacitor to GND_D", 30 PVDD_D (power) "Power supply input for half bridge D requires close decoupling of 2uF capacitor GND_D", 31 PVDD_D (power) "Power supply input for half bridge D requires close decoupling of 2uF capacitor GND_D", 32 GND_D (power) "Power ground for half-bridge D", 33 GND_D (power) "Power ground for half-bridge D", 34 GND_C (power) "Power ground for half-bridge C", 35 GND_C (power) "Power ground for half-bridge C", 38 PVDD_C (power) "Power supply input for half bridge C requires close decoupling of 2uF capacitor GND_C", 39 PVDD_C (power) "Power supply input for half bridge C requires close decoupling of 2uF capacitor GND_C", 42 PVDD_B (power) "Power supply input for half bridge B requires close decoupling of 2uF capacitor GND_B", 43 PVDD_B (power) "Power supply input for half bridge B requires close decoupling of 2uF capacitor GND_B", 46 GND_B (power) "Power ground for half-bridge B", 47 GND_B (power) "Power ground for half-bridge B", 48 GND_A (power) "Power ground for half-bridge A", 49 GND_A (power) "Power ground for half-bridge A", 50 PVDD_A (power) "Power supply input for half bridge A requires close decoupling of 2uF capacitor GND_A", 51 PVDD_A (power) "Power supply input for half bridge A requires close decoupling of 2uF capacitor GND_A", 55 GVDD_A (power) "Gate-drive voltage supply requires 0.1 uF capacitor to GND_A", 56 GVDD_B (power) "Gate drive voltage supply requires 0.1 uF capacitor to GND_B", 57 GND (power) "Ground", 58 GND (power) "Ground", 64 VDD (power) "Power supply for digital voltage regulator requires a 10 uF capacitor in parallel with a 0.1 uF capacitor to GND for decoupling."

## TAS5611APHDR
designator U?
125 W Stereo / 250 W Mono PurePath(TM) HD Analog-Input Power Stage, 0 to 70 degC, 64-pin QFP (PHD64), Green (RoHS & no Sb/Br); Manufacturer: Texas Instruments; PartNumber: TAS5611APHDR; Analog Supply Max [V]: 13.2; Analog Supply Min [V]: 10.8; Input Type: Analog; Max. Number of Speaker Outputs: 4; Power Stage Supply Min(V): 16; SubFamily: Mid/High-Power Amplifier; DatasheetVersion: SLAS709B; PackageVersion: 4087742/E, 10/2008; PackageReference: PHD64; PackageDescription: 64-Pin Plastic Flat Pack, Body 14 x 14 mm, Pitch 0.8 mm; Supplier 1: Digi-Key; Supplier Part Number 1: 296-27614-2-ND; Supplier 2: Digi-Key; Supplier Part Number 2: 296-27614-1-ND; Supplier 3: Digi-Key; Supplier Part Number 3: 296-27614-6-ND; Supplier 4: Farnell; Supplier Part Number 4: 1862564; Supplier 5: Newark; Supplier Part Number 5: 91R2090; Supplier 6: Mouser; Supplier Part Number 6: 595-TAS5611APHDR; Eco-Plan: Green (RoHS & no Sb/Br); Mounting Technology: Surface Mount; Code_JEDEC: MS-026; ComponentLink1Description: Manufacturer URL; ComponentLink1URL: http://www.ti.com/; ComponentLink2Description: Datasheet; ComponentLink2URL: http://www.ti.com/general/docs/lit/getliterature.tsp?genericPartNumber=TAS5611A&fileType=pdf; ComponentLink3Description: Package Specification; ComponentLink3URL: http://www.ti.com/lit/ml/mpqf047d/mpqf047d.pdf
footprint TI-PHD64_N (QFP, 64-Leads, Body 14x14mm, Pitch 0.8mm, IPC Medium Density)
footprint TI-PHD64_L (QFP, 64-Leads, Body 14x14mm, Pitch 0.8mm, IPC High Density)
footprint TI-PHD64_M (QFP, 64-Leads, Body 14x14mm, Pitch 0.8mm, IPC Low Density)
part A pins: 1 OC_ADJ (in) "Analog overcurrent programming pin requires 30k ohm resistor to GND.", 2 ~{RESET} (in) "Device reset input; active-low", 3 C_STARTUP "Start up ramp requires a charging capacitor of 4.7 nF to GND in BTL mode", 4 INPUT_A (in) "Input signal for half bridge A", 5 INPUT_B (in) "Input signal for half bridge B", 6 VI_CM "Analog comparator reference node requires close decoupling of 1 nF to GND.", 10 INPUT_C (in) "Input signal for half bridge C", 11 INPUT_D (in) "Input signal for half bridge D", 12 FREQ_ADJ (in) "PWM frame rate programming pin requires resistor to GND", 13 OSC_IO+ (io) "Oscillator master/slave output/input", 14 OSC_IO- (io) "Oscillator master/slave output/input", 15 ~{SD} (oc) "Shutdown signal, open-drain, active-low", 16 ~{OTW1} (oc) "Overtemperature warning signal, open-drain, active-low", 17 ~{OTW2} (oc) "Overtemperature warning signal, open-drain, active-low", 18 ~{CLIP} (oc) "Clipping warning; open drain; active-low", 19 READY (oc) "Normal operation; open-drain; active-high", 20 M1 (in) "Mode selection", 21 M2 (in) "Mode selection", 22 M3 (in) "Mode selection", 27 BST_D "HS bootstrap supply (BST), external 0.033 uF capacitor to OUT_D required.", 28 OUT_D (hiz) "Output, half-bridge D", 29 OUT_D (hiz) "Output, half-bridge D", 36 OUT_C (hiz) "Output, half-bridge C", 37 OUT_C (hiz) "Output, half-bridge C", 40 BST_C "HS bootstrap supply (BST), external 0.033 uF capacitor to OUT_C required.", 41 BST_B "HS bootstrap supply (BST), external 0.033 uF capacitor to OUT_B required.", 44 OUT_B (hiz) "Output, half-bridge B", 45 OUT_B (hiz) "Output, half-bridge B", 52 OUT_A (hiz) "Output, half-bridge A", 53 OUT_A (hiz) "Output, half-bridge A", 54 BST_A "HS bootstrap supply (BST), external 0.033 uF capacitor to OUT_A required.", 59 NC "No connect; pins may be grounded.", 60 NC "No connect; pins may be grounded.", 61 NC "No connect; pins may be grounded.", 62 NC "No connect; pins may be grounded.", 63 PSU_REF "PSU reference requires close decoupling of 330 pF to AGND."
part B pins: 7 GND (power) "Ground", 8 AGND (power) "Analog ground", 9 VREG "Digital regulator supply filter pin requires 0.1-uF capacitor to GND", 23 GND (power) "Ground", 24 GND (power) "Ground", 25 GVDD_C (power) "Gate drive voltage supply requires 0.1 uF capacitor to GND_C", 26 GVDD_D (power) "Gate drive voltage supply requires 0.1 uF capacitor to GND_D", 30 PVDD_D (power) "Power supply input for half bridge D requires close decoupling of 2uF capacitor GND_D", 31 PVDD_D (power) "Power supply input for half bridge D requires close decoupling of 2uF capacitor GND_D", 32 GND_D (power) "Power ground for half-bridge D", 33 GND_D (power) "Power ground for half-bridge D", 34 GND_C (power) "Power ground for half-bridge C", 35 GND_C (power) "Power ground for half-bridge C", 38 PVDD_C (power) "Power supply input for half bridge C requires close decoupling of 2uF capacitor GND_C", 39 PVDD_C (power) "Power supply input for half bridge C requires close decoupling of 2uF capacitor GND_C", 42 PVDD_B (power) "Power supply input for half bridge B requires close decoupling of 2uF capacitor GND_B", 43 PVDD_B (power) "Power supply input for half bridge B requires close decoupling of 2uF capacitor GND_B", 46 GND_B (power) "Power ground for half-bridge B", 47 GND_B (power) "Power ground for half-bridge B", 48 GND_A (power) "Power ground for half-bridge A", 49 GND_A (power) "Power ground for half-bridge A", 50 PVDD_A (power) "Power supply input for half bridge A requires close decoupling of 2uF capacitor GND_A", 51 PVDD_A (power) "Power supply input for half bridge A requires close decoupling of 2uF capacitor GND_A", 55 GVDD_A (power) "Gate-drive voltage supply requires 0.1 uF capacitor to GND_A", 56 GVDD_B (power) "Gate drive voltage supply requires 0.1 uF capacitor to GND_B", 57 GND (power) "Ground", 58 GND (power) "Ground", 64 VDD (power) "Power supply for digital voltage regulator requires a 10 uF capacitor in parallel with a 0.1 uF capacitor to GND for decoupling."

## TAS5612APHD
designator U?
125 W Stereo / 250 W Mono PurePath(TM) HD Digital-Input Power Stage, 0 to 70 degC, 64-pin QFP (PHD64), Green (RoHS & no Sb/Br); Manufacturer: Texas Instruments; PartNumber: TAS5612APHD; Analog Supply Max [V]: 13.2; Analog Supply Min [V]: 10.8; Input Type: PWM; Max. Number of Speaker Outputs: 4; Power Stage Supply Min(V): 16; SubFamily: Mid/High-Power Amplifier; DatasheetVersion: SLAS710B; PackageVersion: 4087742/E, 10/2008; PackageReference: PHD64; PackageDescription: 64-Pin Plastic Flat Pack, Body 14 x 14 mm, Pitch 0.8 mm; Supplier 1: Digi-Key; Supplier Part Number 1: TAS5612APHD-ND; Supplier 2: Mouser; Supplier Part Number 2: 595-TAS5612APHD; Eco-Plan: Green (RoHS & no Sb/Br); Mounting Technology: Surface Mount; Code_JEDEC: MS-026; ComponentLink1Description: Manufacturer URL; ComponentLink1URL: http://www.ti.com/; ComponentLink2Description: Datasheet; ComponentLink2URL: http://www.ti.com/general/docs/lit/getliterature.tsp?genericPartNumber=TAS5612A&fileType=pdf; ComponentLink3Description: Package Specification; ComponentLink3URL: http://www.ti.com/lit/ml/mpqf047d/mpqf047d.pdf
footprint TI-PHD64_N (QFP, 64-Leads, Body 14x14mm, Pitch 0.8mm, IPC Medium Density)
footprint TI-PHD64_L (QFP, 64-Leads, Body 14x14mm, Pitch 0.8mm, IPC High Density)
footprint TI-PHD64_M (QFP, 64-Leads, Body 14x14mm, Pitch 0.8mm, IPC Low Density)
part A pins: 1 OC_ADJ (in) "Analog overcurrent programming pin requires resistor to ground.", 2 ~{RESET} (in) "Device reset input; active-low", 3 C_STARTUP "Startup ramp requires a charging capacitor of 4.7 nF to GND", 4 INPUT_A (in) "Input signal for half bridge A", 5 INPUT_B (in) "Input signal for half bridge B", 6 VI_CM "Analog comparator reference node requires close decoupling of 4.7uF to GND", 9 VREG "Digital regulator supply filter pin requires 0.1uF capacitor to GND.", 10 INPUT_C (in) "Input signal for half bridge C", 11 INPUT_D (in) "Input signal for half bridge D", 12 TEST (in) "Connect to VREG node", 15 ~{SD} (oc) "Shutdown signal, open-drain, active-low", 16 ~{OTW1} (oc) "Overtemperature warning signal, open-drain, active-low", 17 ~{OTW2} (oc) "Overtemperature warning signal, open-drain, active-low", 18 ~{CLIP} (oc) "Clipping warning; open drain; active-low", 19 READY (oc) "Normal operation; open-drain; active-high", 20 M1 (in) "Mode selection", 21 M2 (in) "Mode selection", 22 M3 (in) "Mode selection", 27 BST_D "HS bootstrap supply (BST), external 0.033uF capacitor to OUT_D required.", 28 OUT_D (hiz) "Output, half bridge D", 29 OUT_D (hiz) "Output, half bridge D", 36 OUT_C (hiz) "Output, half bridge C", 37 OUT_C (hiz) "Output, half bridge C", 40 BST_C "HS bootstrap supply (BST), external 0.033uF capacitor to OUT_C required.", 41 BST_B "HS bootstrap supply (BST), external 0.033uF capacitor to OUT_B required.", 44 OUT_B (hiz) "Output, half bridge B", 45 OUT_B (hiz) "Output, half bridge B", 52 OUT_A (hiz) "Output, half bridge A", 53 OUT_A (hiz) "Output, half bridge A", 54 BST_A "HS bootstrap supply (BST), external 0.033uF capacitor to OUT_A required.", 63 PSU_REF "PSU Reference requires close decoupling of 4.7uF to GND"
part B pins: 7 GND (power) "Ground", 8 AGND (power) "Analog ground", 23 GND (power) "Ground", 24 GND (power) "Ground", 25 GVDD_C (power) "Gate drive voltage supply requires 0.1uF capacitor to GND", 26 GVDD_D (power) "Gate drive voltage supply requires 0.1uF capacitor to GND", 30 PVDD_D (power) "Power supply input for half bridge D requires close decoupling of 2uF capacitor GND_D", 31 PVDD_D (power) "Power supply input for half bridge D requires close decoupling of 2uF capacitor GND_D", 32 GND_D (power) "Power ground for half bridge D", 33 GND_D (power) "Power ground for half bridge D", 34 GND_C (power) "Power ground for half bridge C", 35 GND_C (power) "Power ground for half bridge C", 38 PVDD_C (power) "Power supply input for half bridge C requires close decoupling of 2uF capacitor GND_C", 39 PVDD_C (power) "Power supply input for half bridge C requires close decoupling of 2uF capacitor GND_C", 42 PVDD_B (power) "Power supply input for half bridge B requires close decoupling of 2uF capacitor GND_B", 43 PVDD_B (power) "Power supply input for half bridge B requires close decoupling of 2uF capacitor GND_B", 46 GND_B (power) "Power ground for half bridge B", 47 GND_B (power) "Power ground for half bridge B", 48 GND_A (power) "Power ground for half bridge A", 49 GND_A (power) "Power ground for half bridge A", 50 PVDD_A (power) "Power supply input for half bridge A requires close decoupling of 2uF capacitor GND_A", 51 PVDD_A (power) "Power supply input for half bridge A requires close decoupling of 2uF capacitor GND_A", 55 GVDD_A (power) "Gate-drive voltage supply requires 0.1uF capacitor to GND", 56 GVDD_B (power) "Gate drive voltage supply requires 0.1uF capacitor to GND", 57 GND (power) "Ground", 58 GND (power) "Ground", 64 VDD (power) "Power supply for digital voltage regulator requires a 47uF capacitor in parallel with a 0.1uF capacitor to GND for decoupling."
part C pins: 13 NC "No connect, pins may be grounded.", 14 NC "No connect, pins may be grounded.", 59 NC "No connect; pins may be grounded.", 60 NC "No connect; pins may be grounded.", 61 NC "No connect; pins may be grounded.", 62 NC "No connect; pins may be grounded."